# Altium schematic symbol library LTC6810.SchLib: 1 symbol
Pins are listed as number, name and electrical type; pins without a type are passive.

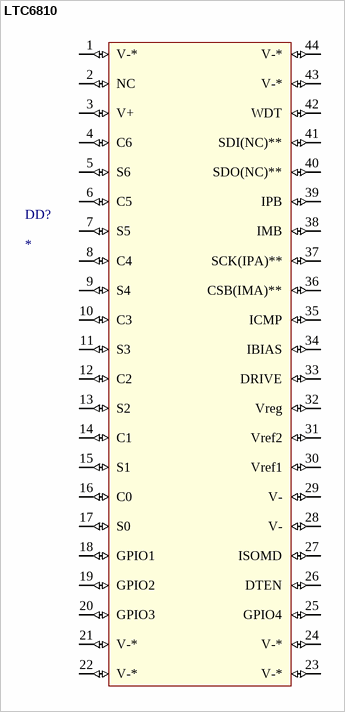
[diagram p0: symbol LTC6810]

## LTC6810
designator DD?
ComponentLink1Description: ChipDip; ComponentLink1URL: https://www.chipdip.ru/product1/8004965185; ComponentLink2Description: Datasheet; ComponentLink2URL: https://www.analog.com/ru/products/ltc6810-1.html#product-overview
footprint PCBComponent_1
footprint LTC6810-1
pins: 1 V-* (io), 2 NC (io), 3 V+ (io), 4 C6 (io), 5 S6 (io), 6 C5 (io), 7 S5 (io), 8 C4 (io), 9 S4 (io), 10 C3 (io), 11 S3 (io), 12 C2 (io), 13 S2 (io), 14 C1 (io), 15 S1 (io), 16 C0 (io), 17 S0 (io), 18 GPIO1 (io), 19 GPIO2 (io), 20 GPIO3 (io), 21 V-* (io), 22 V-* (io), 23 V-* (io), 24 V-* (io), 25 GPIO4 (io), 26 DTEN (io), 27 ISOMD (io), 28 V- (io), 29 V- (io), 30 Vref1 (io), 31 Vref2 (io), 32 Vreg (io), 33 DRIVE (io), 34 IBIAS (io), 35 ICMP (io), 36 CSB(IMA)** (io), 37 SCK(IPA)** (io), 38 IMB (io), 39 IPB (io), 40 SDO(NC)** (io), 41 SDI(NC)** (io), 42 WDT (io), 43 V-* (io), 44 V-* (io)